# EAGLE library part 253-112/000-050 (library con-wago_253)
Stand: 01.01.2014. Die jeweils aktuellen Daten zu diesem Artikel finden Sie in unserem Produktkatalog, den Sie unter www.wago.com einsehen können. As of: 01/01/2014. Please find the newest data for this article in our product catalogue, which can be viewed under www.wago.com.
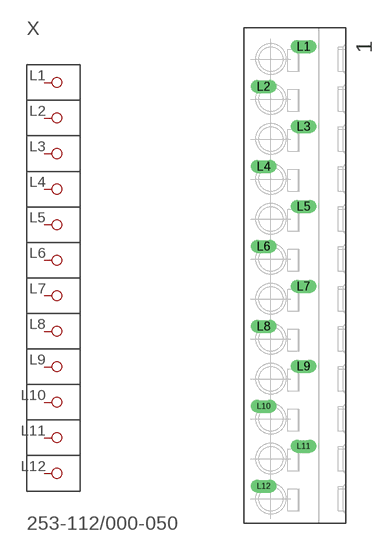
[diagram p105: symbol with the pads of P-253-112; footprint P-253-112]

Designator prefix X

## 253-112/000-050  [P-253-112]
L1  P1
L2  P2
L3  P3
L4  P4
L5  P5
L6  P6
L7  P7
L8  P8
L9  P9
L10  P10
L11  P11
L12  P12

## Footprint P-253-112 (pad centres in mm)
drill 1.1 long: L1 1.1,28.6; L2 -3.9,23.6; L3 1.1,18.6; L4 -3.9,13.6; L5 1.1,8.6; L6 -3.9,3.6; L7 1.1,-1.4; L8 -3.9,-6.4; L9 1.1,-11.4; L10 -3.9,-16.4; L11 1.1,-21.4; L12 -3.9,-26.4